# EAGLE library part AE-KXP84 (library mita-akiba)
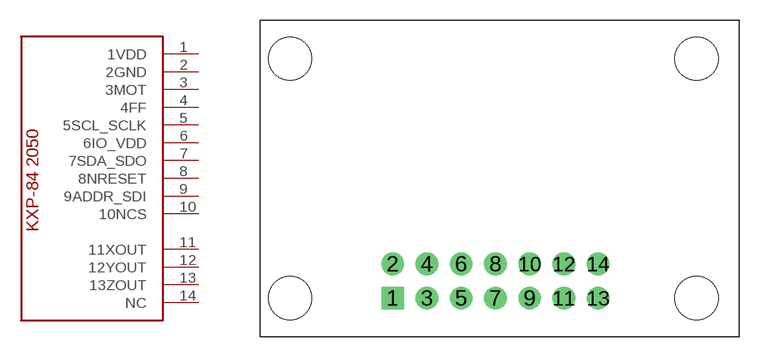
[diagram p32: symbol with the pads of AE-KXP84; footprint AE-KXP84]

Designator prefix -

## AE-KXP84  [AE-KXP84]
1  1VDD
2  2GND
3  3MOT
4  4FF
5  5SCL_SCLK
6  6IO_VDD
7  7SDA_SDO
8  8NRESET
9  9ADDR_SDI
10  10NCS
11  11XOUT
12  12YOUT
13  13ZOUT
14  NC

## Footprint AE-KXP84 (pad centres in mm)
drill 1 pad 1.676 square: 1 0,0
drill 1 pad 1.676: 2 0,2.54; 3 2.54,0; 4 2.54,2.54; 5 5.08,0; 6 5.08,2.54; 7 7.62,0; 8 7.62,2.54; 9 10.16,0; 10 10.16,2.54; 11 12.7,0; 12 12.7,2.54; 13 15.24,0; 14 15.24,2.54
hole 3.2 at -7.62,0
hole 3.2 at 22.543,0
hole 3.2 at 22.543,17.78
hole 3.2 at -7.62,17.78